# EAGLE library part CURRENTSENSE_GATEDRIVER_INA207 (library eagle-template-export)
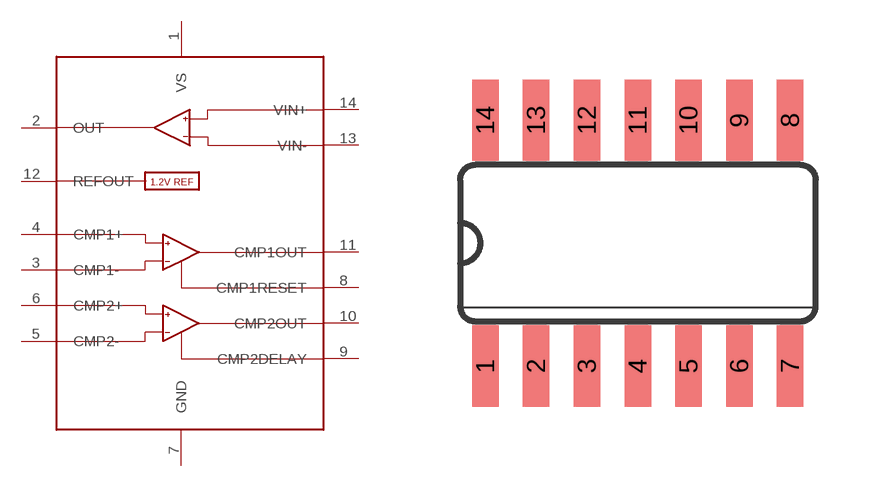
[diagram p5: symbol with the pads of CURRENTSENSE_GATEDRIVER_SO-14; footprint CURRENTSENSE_GATEDRIVER_SO-14]

Designator prefix IC

## CURRENTSENSE_GATEDRIVER_INA207  [CURRENTSENSE_GATEDRIVER_SO-14]
1  VS
2  OUT
3  CMP1-
4  CMP1+
5  CMP2-
6  CMP2+
7  GND
8  CMP1RESET
9  CMP2DELAY
10  CMP2OUT
11  CMP1OUT
12  REFOUT
13  VIN-
14  VIN+

## Footprint CURRENTSENSE_GATEDRIVER_SO-14 (pad centres in mm)
smd 0.66 x 2.032: 1 -3.81,-3.073; 2 -2.54,-3.073; 3 -1.27,-3.073; 4 0,-3.073; 5 1.27,-3.073; 6 2.54,-3.073; 7 3.81,-3.073; 8 3.81,3.073; 9 2.54,3.073; 10 1.27,3.073; 11 0,3.073; 12 -1.27,3.073; 13 -2.54,3.073; 14 -3.81,3.073